# Altium schematic symbol library WE-MK.SchLib: 204 symbols (part 1 of 4)
Pins are listed as number, name and electrical type; pins without a type are passive.

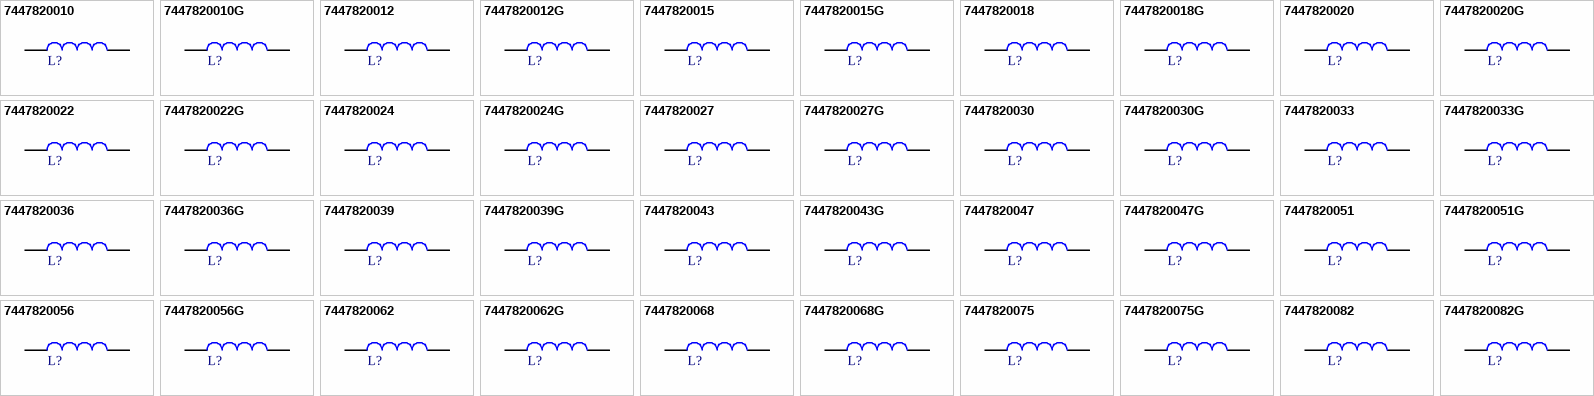
[diagram p0: symbols 7447820010 to 7447820082G]

## 7447820010
designator L?, comment 1nH  (value not drawn)
WE-MK Multilayer Ceramic SMT Inductor, size 0201, 1nH, 0.47A, 0.11Ohm; Manufacturer Part Number: 7447820010; Manufacturer: Wurth Elektronik; Case/Size Code: 0201; Inductance Tolerance: +/-0.3nH; Q Factor: 4; Self Resonant Frequency: 10000MHz; Category: RF Inductors; Match Code: WE-MK; ComponentLink1Description: Website Link; ComponentLink1URL: https://www.we-online.com/redexpert/article/7447820010?ad; ComponentLink2Description: Datasheet Link; ComponentLink2URL: https://www.we-online.com/redexpert/spec/7447820010?ad; Mount: Surface Mount; Operating Temperature Max: 125°C; Operating Temperature Min: -55°C; Packaging: Tape and Reel; Length: 0.6mm; Width: 0.3mm; Height: 0.3mm; DC Resistance Max: 0.11Ohm; Inductance: 1nH; Rated Current: 0.47A
footprint WE-MK_0201_L0.6W0.3H0.3
simulation model 0201_7447820010_1n
pins: 1, 2

## 7447820010G
designator L?, comment 1nH  (value not drawn)
WE-MK Multilayer Ceramic SMT Inductor, size 0201, 1nH, 0.47A, 0.11Ohm; Manufacturer Part Number: 7447820010G; Manufacturer: Wurth Elektronik; Case/Size Code: 0201; Inductance Tolerance: +/-0.1nH; Q Factor: 4; Self Resonant Frequency: 10000MHz; Category: RF Inductors; Match Code: WE-MK; ComponentLink1Description: Website Link; ComponentLink1URL: https://www.we-online.com/redexpert/article/7447820010G?ad; ComponentLink2Description: Datasheet Link; ComponentLink2URL: https://www.we-online.com/redexpert/spec/7447820010G?ad; Mount: Surface Mount; Operating Temperature Max: 125°C; Operating Temperature Min: -55°C; Packaging: Tape and Reel; Length: 0.6mm; Width: 0.3mm; Height: 0.3mm; DC Resistance Max: 0.11Ohm; Inductance: 1nH; Rated Current: 0.47A
footprint WE-MK_0201_L0.6W0.3H0.3
simulation model 0201_7447820010G_1n
pins: 1, 2

## 7447820012
designator L?, comment 1.2nH  (value not drawn)
WE-MK Multilayer Ceramic SMT Inductor, size 0201, 1.2nH, 0.45A, 0.12Ohm; Manufacturer Part Number: 7447820012; Manufacturer: Wurth Elektronik; Case/Size Code: 0201; Inductance Tolerance: +/-0.3nH; Q Factor: 4; Self Resonant Frequency: 10000MHz; Category: RF Inductors; Match Code: WE-MK; ComponentLink1Description: Website Link; ComponentLink1URL: https://www.we-online.com/redexpert/article/7447820012?ad; ComponentLink2Description: Datasheet Link; ComponentLink2URL: https://www.we-online.com/redexpert/spec/7447820012?ad; Mount: Surface Mount; Operating Temperature Max: 125°C; Operating Temperature Min: -55°C; Packaging: Tape and Reel; Length: 0.6mm; Width: 0.3mm; Height: 0.3mm; DC Resistance Max: 0.12Ohm; Inductance: 1.2nH; Rated Current: 0.45A
footprint WE-MK_0201_L0.6W0.3H0.3
simulation model 0201_7447820012_1.2n
pins: 1, 2

## 7447820012G
designator L?, comment 1.2nH  (value not drawn)
WE-MK Multilayer Ceramic SMT Inductor, size 0201, 1.2nH, 0.45A, 0.12Ohm; Manufacturer Part Number: 7447820012G; Manufacturer: Wurth Elektronik; Case/Size Code: 0201; Inductance Tolerance: +/-0.1nH; Q Factor: 4; Self Resonant Frequency: 10000MHz; Category: RF Inductors; Match Code: WE-MK; ComponentLink1Description: Website Link; ComponentLink1URL: https://www.we-online.com/redexpert/article/7447820012G?ad; ComponentLink2Description: Datasheet Link; ComponentLink2URL: https://www.we-online.com/redexpert/spec/7447820012G?ad; Mount: Surface Mount; Operating Temperature Max: 125°C; Operating Temperature Min: -55°C; Packaging: Tape and Reel; Length: 0.6mm; Width: 0.3mm; Height: 0.3mm; DC Resistance Max: 0.12Ohm; Inductance: 1.2nH; Rated Current: 0.45A
footprint WE-MK_0201_L0.6W0.3H0.3
simulation model 0201_7447820012G_1.2n
pins: 1, 2

## 7447820015
designator L?, comment 1.5nH  (value not drawn)
WE-MK Multilayer Ceramic SMT Inductor, size 0201, 1.5nH, 0.43A, 0.13Ohm; Manufacturer Part Number: 7447820015; Manufacturer: Wurth Elektronik; Case/Size Code: 0201; Inductance Tolerance: +/-0.3nH; Q Factor: 4; Self Resonant Frequency: 10000MHz; Category: RF Inductors; Match Code: WE-MK; ComponentLink1Description: Website Link; ComponentLink1URL: https://www.we-online.com/redexpert/article/7447820015?ad; ComponentLink2Description: Datasheet Link; ComponentLink2URL: https://www.we-online.com/redexpert/spec/7447820015?ad; Mount: Surface Mount; Operating Temperature Max: 125°C; Operating Temperature Min: -55°C; Packaging: Tape and Reel; Length: 0.6mm; Width: 0.3mm; Height: 0.3mm; DC Resistance Max: 0.13Ohm; Inductance: 1.5nH; Rated Current: 0.43A
footprint WE-MK_0201_L0.6W0.3H0.3
simulation model 0201_7447820015_1.5n
pins: 1, 2

## 7447820015G
designator L?, comment 1.5nH  (value not drawn)
WE-MK Multilayer Ceramic SMT Inductor, size 0201, 1.5nH, 0.43A, 0.13Ohm; Manufacturer Part Number: 7447820015G; Manufacturer: Wurth Elektronik; Case/Size Code: 0201; Inductance Tolerance: +/-0.1nH; Q Factor: 4; Self Resonant Frequency: 10000MHz; Category: RF Inductors; Match Code: WE-MK; ComponentLink1Description: Website Link; ComponentLink1URL: https://www.we-online.com/redexpert/article/7447820015G?ad; ComponentLink2Description: Datasheet Link; ComponentLink2URL: https://www.we-online.com/redexpert/spec/7447820015G?ad; Mount: Surface Mount; Operating Temperature Max: 125°C; Operating Temperature Min: -55°C; Packaging: Tape and Reel; Length: 0.6mm; Width: 0.3mm; Height: 0.3mm; DC Resistance Max: 0.13Ohm; Inductance: 1.5nH; Rated Current: 0.43A
footprint WE-MK_0201_L0.6W0.3H0.3
simulation model 0201_7447820015G_1.5n
pins: 1, 2

## 7447820018
designator L?, comment 1.8nH  (value not drawn)
WE-MK Multilayer Ceramic SMT Inductor, size 0201, 1.8nH, 0.39A, 0.16Ohm; Manufacturer Part Number: 7447820018; Manufacturer: Wurth Elektronik; Case/Size Code: 0201; Inductance Tolerance: +/-0.3nH; Q Factor: 4; Self Resonant Frequency: 10000MHz; Category: RF Inductors; Match Code: WE-MK; ComponentLink1Description: Website Link; ComponentLink1URL: https://www.we-online.com/redexpert/article/7447820018?ad; ComponentLink2Description: Datasheet Link; ComponentLink2URL: https://www.we-online.com/redexpert/spec/7447820018?ad; Mount: Surface Mount; Operating Temperature Max: 125°C; Operating Temperature Min: -55°C; Packaging: Tape and Reel; Length: 0.6mm; Width: 0.3mm; Height: 0.3mm; DC Resistance Max: 0.16Ohm; Inductance: 1.8nH; Rated Current: 0.39A
footprint WE-MK_0201_L0.6W0.3H0.3
simulation model 0201_7447820018_1.8n
pins: 1, 2

## 7447820018G
designator L?, comment 1.8nH  (value not drawn)
WE-MK Multilayer Ceramic SMT Inductor, size 0201, 1.8nH, 0.39A, 0.16Ohm; Manufacturer Part Number: 7447820018G; Manufacturer: Wurth Elektronik; Case/Size Code: 0201; Inductance Tolerance: +/-0.1nH; Q Factor: 4; Self Resonant Frequency: 10000MHz; Category: RF Inductors; Match Code: WE-MK; ComponentLink1Description: Website Link; ComponentLink1URL: https://www.we-online.com/redexpert/article/7447820018G?ad; ComponentLink2Description: Datasheet Link; ComponentLink2URL: https://www.we-online.com/redexpert/spec/7447820018G?ad; Mount: Surface Mount; Operating Temperature Max: 125°C; Operating Temperature Min: -55°C; Packaging: Tape and Reel; Length: 0.6mm; Width: 0.3mm; Height: 0.3mm; DC Resistance Max: 0.16Ohm; Inductance: 1.8nH; Rated Current: 0.39A
footprint WE-MK_0201_L0.6W0.3H0.3
simulation model 0201_7447820018G_1.8n
pins: 1, 2

## 7447820020
designator L?, comment 2nH  (value not drawn)
WE-MK Multilayer Ceramic SMT Inductor, size 0201, 2nH, 0.38A, 0.17Ohm; Manufacturer Part Number: 7447820020; Manufacturer: Wurth Elektronik; Case/Size Code: 0201; Inductance Tolerance: +/-0.3nH; Q Factor: 4; Self Resonant Frequency: 8800MHz; Category: RF Inductors; Match Code: WE-MK; ComponentLink1Description: Website Link; ComponentLink1URL: https://www.we-online.com/redexpert/article/7447820020?ad; ComponentLink2Description: Datasheet Link; ComponentLink2URL: https://www.we-online.com/redexpert/spec/7447820020?ad; Mount: Surface Mount; Operating Temperature Max: 125°C; Operating Temperature Min: -55°C; Packaging: Tape and Reel; Length: 0.6mm; Width: 0.3mm; Height: 0.3mm; DC Resistance Max: 0.17Ohm; Inductance: 2nH; Rated Current: 0.38A
footprint WE-MK_0201_L0.6W0.3H0.3
simulation model 0201_7447820020_2n
pins: 1, 2

## 7447820020G
designator L?, comment 2nH  (value not drawn)
WE-MK Multilayer Ceramic SMT Inductor, size 0201, 2nH, 0.38A, 0.17Ohm; Manufacturer Part Number: 7447820020G; Manufacturer: Wurth Elektronik; Case/Size Code: 0201; Inductance Tolerance: +/-0.1nH; Q Factor: 4; Self Resonant Frequency: 8800MHz; Category: RF Inductors; Match Code: WE-MK; ComponentLink1Description: Website Link; ComponentLink1URL: https://www.we-online.com/redexpert/article/7447820020G?ad; ComponentLink2Description: Datasheet Link; ComponentLink2URL: https://www.we-online.com/redexpert/spec/7447820020G?ad; Mount: Surface Mount; Operating Temperature Max: 125°C; Operating Temperature Min: -55°C; Packaging: Tape and Reel; Length: 0.6mm; Width: 0.3mm; Height: 0.3mm; DC Resistance Max: 0.17Ohm; Inductance: 2nH; Rated Current: 0.38A
footprint WE-MK_0201_L0.6W0.3H0.3
simulation model 0201_7447820020G_2n
pins: 1, 2

## 7447820022
designator L?, comment 2.2nH  (value not drawn)
WE-MK Multilayer Ceramic SMT Inductor, size 0201, 2.2nH, 0.36A, 0.19Ohm; Manufacturer Part Number: 7447820022; Manufacturer: Wurth Elektronik; Case/Size Code: 0201; Inductance Tolerance: +/-0.3nH; Q Factor: 4; Self Resonant Frequency: 8800MHz; Category: RF Inductors; Match Code: WE-MK; ComponentLink1Description: Website Link; ComponentLink1URL: https://www.we-online.com/redexpert/article/7447820022?ad; ComponentLink2Description: Datasheet Link; ComponentLink2URL: https://www.we-online.com/redexpert/spec/7447820022?ad; Mount: Surface Mount; Operating Temperature Max: 125°C; Operating Temperature Min: -55°C; Packaging: Tape and Reel; Length: 0.6mm; Width: 0.3mm; Height: 0.3mm; DC Resistance Max: 0.19Ohm; Inductance: 2.2nH; Rated Current: 0.36A
footprint WE-MK_0201_L0.6W0.3H0.3
simulation model 0201_7447820022_2.2n
pins: 1, 2

## 7447820022G
designator L?, comment 2.2nH  (value not drawn)
WE-MK Multilayer Ceramic SMT Inductor, size 0201, 2.2nH, 0.36A, 0.19Ohm; Manufacturer Part Number: 7447820022G; Manufacturer: Wurth Elektronik; Case/Size Code: 0201; Inductance Tolerance: +/-0.1nH; Q Factor: 4; Self Resonant Frequency: 8800MHz; Category: RF Inductors; Match Code: WE-MK; ComponentLink1Description: Website Link; ComponentLink1URL: https://www.we-online.com/redexpert/article/7447820022G?ad; ComponentLink2Description: Datasheet Link; ComponentLink2URL: https://www.we-online.com/redexpert/spec/7447820022G?ad; Mount: Surface Mount; Operating Temperature Max: 125°C; Operating Temperature Min: -55°C; Packaging: Tape and Reel; Length: 0.6mm; Width: 0.3mm; Height: 0.3mm; DC Resistance Max: 0.19Ohm; Inductance: 2.2nH; Rated Current: 0.36A
footprint WE-MK_0201_L0.6W0.3H0.3
simulation model 0201_7447820022G_2.2n
pins: 1, 2

## 7447820024
designator L?, comment 2.4nH  (value not drawn)
WE-MK Multilayer Ceramic SMT Inductor, size 0201, 2.4nH, 0.35A, 0.2Ohm; Manufacturer Part Number: 7447820024; Manufacturer: Wurth Elektronik; Case/Size Code: 0201; Inductance Tolerance: +/-0.3nH; Q Factor: 4; Self Resonant Frequency: 8300MHz; Category: RF Inductors; Match Code: WE-MK; ComponentLink1Description: Website Link; ComponentLink1URL: https://www.we-online.com/redexpert/article/7447820024?ad; ComponentLink2Description: Datasheet Link; ComponentLink2URL: https://www.we-online.com/redexpert/spec/7447820024?ad; Mount: Surface Mount; Operating Temperature Max: 125°C; Operating Temperature Min: -55°C; Packaging: Tape and Reel; Length: 0.6mm; Width: 0.3mm; Height: 0.3mm; DC Resistance Max: 0.2Ohm; Inductance: 2.4nH; Rated Current: 0.35A
footprint WE-MK_0201_L0.6W0.3H0.3
simulation model 0201_7447820024_2.4n
pins: 1, 2

## 7447820024G
designator L?, comment 2.4nH  (value not drawn)
WE-MK Multilayer Ceramic SMT Inductor, size 0201, 2.4nH, 0.35A, 0.2Ohm; Manufacturer Part Number: 7447820024G; Manufacturer: Wurth Elektronik; Case/Size Code: 0201; Inductance Tolerance: +/-0.1nH; Q Factor: 4; Self Resonant Frequency: 8300MHz; Category: RF Inductors; Match Code: WE-MK; ComponentLink1Description: Website Link; ComponentLink1URL: https://www.we-online.com/redexpert/article/7447820024G?ad; ComponentLink2Description: Datasheet Link; ComponentLink2URL: https://www.we-online.com/redexpert/spec/7447820024G?ad; Mount: Surface Mount; Operating Temperature Max: 125°C; Operating Temperature Min: -55°C; Packaging: Tape and Reel; Length: 0.6mm; Width: 0.3mm; Height: 0.3mm; DC Resistance Max: 0.2Ohm; Inductance: 2.4nH; Rated Current: 0.35A
footprint WE-MK_0201_L0.6W0.3H0.3
simulation model 0201_7447820024G_2.4n
pins: 1, 2

## 7447820027
designator L?, comment 2.7nH  (value not drawn)
WE-MK Multilayer Ceramic SMT Inductor, size 0201, 2.7nH, 0.34A, 0.21Ohm; Manufacturer Part Number: 7447820027; Manufacturer: Wurth Elektronik; Case/Size Code: 0201; Inductance Tolerance: +/-0.3nH; Q Factor: 4; Self Resonant Frequency: 7700MHz; Category: RF Inductors; Match Code: WE-MK; ComponentLink1Description: Website Link; ComponentLink1URL: https://www.we-online.com/redexpert/article/7447820027?ad; ComponentLink2Description: Datasheet Link; ComponentLink2URL: https://www.we-online.com/redexpert/spec/7447820027?ad; Mount: Surface Mount; Operating Temperature Max: 125°C; Operating Temperature Min: -55°C; Packaging: Tape and Reel; Length: 0.6mm; Width: 0.3mm; Height: 0.3mm; DC Resistance Max: 0.21Ohm; Inductance: 2.7nH; Rated Current: 0.34A
footprint WE-MK_0201_L0.6W0.3H0.3
simulation model 0201_7447820027_2.7n
pins: 1, 2

## 7447820027G
designator L?, comment 2.7nH  (value not drawn)
WE-MK Multilayer Ceramic SMT Inductor, size 0201, 2.7nH, 0.34A, 0.21Ohm; Manufacturer Part Number: 7447820027G; Manufacturer: Wurth Elektronik; Case/Size Code: 0201; Inductance Tolerance: +/-0.1nH; Q Factor: 4; Self Resonant Frequency: 7700MHz; Category: RF Inductors; Match Code: WE-MK; ComponentLink1Description: Website Link; ComponentLink1URL: https://www.we-online.com/redexpert/article/7447820027G?ad; ComponentLink2Description: Datasheet Link; ComponentLink2URL: https://www.we-online.com/redexpert/spec/7447820027G?ad; Mount: Surface Mount; Operating Temperature Max: 125°C; Operating Temperature Min: -55°C; Packaging: Tape and Reel; Length: 0.6mm; Width: 0.3mm; Height: 0.3mm; DC Resistance Max: 0.21Ohm; Inductance: 2.7nH; Rated Current: 0.34A
footprint WE-MK_0201_L0.6W0.3H0.3
simulation model 0201_7447820027G_2.7n
pins: 1, 2

## 7447820030
designator L?, comment 3nH  (value not drawn)
WE-MK Multilayer Ceramic SMT Inductor, size 0201, 3nH, 0.33A, 0.22Ohm; Manufacturer Part Number: 7447820030; Manufacturer: Wurth Elektronik; Case/Size Code: 0201; Inductance Tolerance: +/-0.3nH; Q Factor: 4; Self Resonant Frequency: 7200MHz; Category: RF Inductors; Match Code: WE-MK; ComponentLink1Description: Website Link; ComponentLink1URL: https://www.we-online.com/redexpert/article/7447820030?ad; ComponentLink2Description: Datasheet Link; ComponentLink2URL: https://www.we-online.com/redexpert/spec/7447820030?ad; Mount: Surface Mount; Operating Temperature Max: 125°C; Operating Temperature Min: -55°C; Packaging: Tape and Reel; Length: 0.6mm; Width: 0.3mm; Height: 0.3mm; DC Resistance Max: 0.22Ohm; Inductance: 3nH; Rated Current: 0.33A
footprint WE-MK_0201_L0.6W0.3H0.3
simulation model 0201_7447820030_3n
pins: 1, 2

## 7447820030G
designator L?, comment 3nH  (value not drawn)
WE-MK Multilayer Ceramic SMT Inductor, size 0201, 3nH, 0.33A, 0.22Ohm; Manufacturer Part Number: 7447820030G; Manufacturer: Wurth Elektronik; Case/Size Code: 0201; Inductance Tolerance: +/-0.1nH; Q Factor: 4; Self Resonant Frequency: 7200MHz; Category: RF Inductors; Match Code: WE-MK; ComponentLink1Description: Website Link; ComponentLink1URL: https://www.we-online.com/redexpert/article/7447820030G?ad; ComponentLink2Description: Datasheet Link; ComponentLink2URL: https://www.we-online.com/redexpert/spec/7447820030G?ad; Mount: Surface Mount; Operating Temperature Max: 125°C; Operating Temperature Min: -55°C; Packaging: Tape and Reel; Length: 0.6mm; Width: 0.3mm; Height: 0.3mm; DC Resistance Max: 0.22Ohm; Inductance: 3nH; Rated Current: 0.33A
footprint WE-MK_0201_L0.6W0.3H0.3
simulation model 0201_7447820030G_3n
pins: 1, 2

## 7447820033
designator L?, comment 3.3nH  (value not drawn)
WE-MK Multilayer Ceramic SMT Inductor, size 0201, 3.3nH, 0.32A, 0.23Ohm; Manufacturer Part Number: 7447820033; Manufacturer: Wurth Elektronik; Case/Size Code: 0201; Inductance Tolerance: +/-0.3nH; Q Factor: 4; Self Resonant Frequency: 6700MHz; Category: RF Inductors; Match Code: WE-MK; ComponentLink1Description: Website Link; ComponentLink1URL: https://www.we-online.com/redexpert/article/7447820033?ad; ComponentLink2Description: Datasheet Link; ComponentLink2URL: https://www.we-online.com/redexpert/spec/7447820033?ad; Mount: Surface Mount; Operating Temperature Max: 125°C; Operating Temperature Min: -55°C; Packaging: Tape and Reel; Length: 0.6mm; Width: 0.3mm; Height: 0.3mm; DC Resistance Max: 0.23Ohm; Inductance: 3.3nH; Rated Current: 0.32A
footprint WE-MK_0201_L0.6W0.3H0.3
simulation model 0201_7447820033_3.3n
pins: 1, 2

## 7447820033G
designator L?, comment 3.3nH  (value not drawn)
WE-MK Multilayer Ceramic SMT Inductor, size 0201, 3.3nH, 0.32A, 0.23Ohm; Manufacturer Part Number: 7447820033G; Manufacturer: Wurth Elektronik; Case/Size Code: 0201; Inductance Tolerance: +/-0.1nH; Q Factor: 4; Self Resonant Frequency: 6700MHz; Category: RF Inductors; Match Code: WE-MK; ComponentLink1Description: Website Link; ComponentLink1URL: https://www.we-online.com/redexpert/article/7447820033G?ad; ComponentLink2Description: Datasheet Link; ComponentLink2URL: https://www.we-online.com/redexpert/spec/7447820033G?ad; Mount: Surface Mount; Operating Temperature Max: 125°C; Operating Temperature Min: -55°C; Packaging: Tape and Reel; Length: 0.6mm; Width: 0.3mm; Height: 0.3mm; DC Resistance Max: 0.23Ohm; Inductance: 3.3nH; Rated Current: 0.32A
footprint WE-MK_0201_L0.6W0.3H0.3
simulation model 0201_7447820033G_3.3n
pins: 1, 2

## 7447820036
designator L?, comment 3.6nH  (value not drawn)
WE-MK Multilayer Ceramic SMT Inductor, size 0201, 3.6nH, 0.31A, 0.25Ohm; Manufacturer Part Number: 7447820036; Manufacturer: Wurth Elektronik; Case/Size Code: 0201; Inductance Tolerance: +/-0.3nH; Q Factor: 4; Self Resonant Frequency: 6400MHz; Category: RF Inductors; Match Code: WE-MK; ComponentLink1Description: Website Link; ComponentLink1URL: https://www.we-online.com/redexpert/article/7447820036?ad; ComponentLink2Description: Datasheet Link; ComponentLink2URL: https://www.we-online.com/redexpert/spec/7447820036?ad; Mount: Surface Mount; Operating Temperature Max: 125°C; Operating Temperature Min: -55°C; Packaging: Tape and Reel; Length: 0.6mm; Width: 0.3mm; Height: 0.3mm; DC Resistance Max: 0.25Ohm; Inductance: 3.6nH; Rated Current: 0.31A
footprint WE-MK_0201_L0.6W0.3H0.3
simulation model 0201_7447820036_3.6n
pins: 1, 2

## 7447820036G
designator L?, comment 3.6nH  (value not drawn)
WE-MK Multilayer Ceramic SMT Inductor, size 0201, 3.6nH, 0.31A, 0.25Ohm; Manufacturer Part Number: 7447820036G; Manufacturer: Wurth Elektronik; Case/Size Code: 0201; Inductance Tolerance: +/-0.1nH; Q Factor: 4; Self Resonant Frequency: 6400MHz; Category: RF Inductors; Match Code: WE-MK; ComponentLink1Description: Website Link; ComponentLink1URL: https://www.we-online.com/redexpert/article/7447820036G?ad; ComponentLink2Description: Datasheet Link; ComponentLink2URL: https://www.we-online.com/redexpert/spec/7447820036G?ad; Mount: Surface Mount; Operating Temperature Max: 125°C; Operating Temperature Min: -55°C; Packaging: Tape and Reel; Length: 0.6mm; Width: 0.3mm; Height: 0.3mm; DC Resistance Max: 0.25Ohm; Inductance: 3.6nH; Rated Current: 0.31A
footprint WE-MK_0201_L0.6W0.3H0.3
simulation model 0201_7447820036G_3.6n
pins: 1, 2

## 7447820039
designator L?, comment 3.9nH  (value not drawn)
WE-MK Multilayer Ceramic SMT Inductor, size 0201, 3.9nH, 0.3A, 0.27Ohm; Manufacturer Part Number: 7447820039; Manufacturer: Wurth Elektronik; Case/Size Code: 0201; Inductance Tolerance: +/-0.3nH; Q Factor: 4; Self Resonant Frequency: 6000MHz; Category: RF Inductors; Match Code: WE-MK; ComponentLink1Description: Website Link; ComponentLink1URL: https://www.we-online.com/redexpert/article/7447820039?ad; ComponentLink2Description: Datasheet Link; ComponentLink2URL: https://www.we-online.com/redexpert/spec/7447820039?ad; Mount: Surface Mount; Operating Temperature Max: 125°C; Operating Temperature Min: -55°C; Packaging: Tape and Reel; Length: 0.6mm; Width: 0.3mm; Height: 0.3mm; DC Resistance Max: 0.27Ohm; Inductance: 3.9nH; Rated Current: 0.3A
footprint WE-MK_0201_L0.6W0.3H0.3
simulation model 0201_7447820039_3.9n
pins: 1, 2

## 7447820039G
designator L?, comment 3.9nH  (value not drawn)
WE-MK Multilayer Ceramic SMT Inductor, size 0201, 3.9nH, 0.3A, 0.27Ohm; Manufacturer Part Number: 7447820039G; Manufacturer: Wurth Elektronik; Case/Size Code: 0201; Inductance Tolerance: +/-0.1nH; Q Factor: 4; Self Resonant Frequency: 6000MHz; Category: RF Inductors; Match Code: WE-MK; ComponentLink1Description: Website Link; ComponentLink1URL: https://www.we-online.com/redexpert/article/7447820039G?ad; ComponentLink2Description: Datasheet Link; ComponentLink2URL: https://www.we-online.com/redexpert/spec/7447820039G?ad; Mount: Surface Mount; Operating Temperature Max: 125°C; Operating Temperature Min: -55°C; Packaging: Tape and Reel; Length: 0.6mm; Width: 0.3mm; Height: 0.3mm; DC Resistance Max: 0.27Ohm; Inductance: 3.9nH; Rated Current: 0.3A
footprint WE-MK_0201_L0.6W0.3H0.3
simulation model 0201_7447820039G_3.9n
pins: 1, 2

## 7447820043
designator L?, comment 4.3nH  (value not drawn)
WE-MK Multilayer Ceramic SMT Inductor, size 0201, 4.3nH, 0.28A, 0.3Ohm; Manufacturer Part Number: 7447820043; Manufacturer: Wurth Elektronik; Case/Size Code: 0201; Inductance Tolerance: +/-0.3nH; Q Factor: 4; Self Resonant Frequency: 5700MHz; Category: RF Inductors; Match Code: WE-MK; ComponentLink1Description: Website Link; ComponentLink1URL: https://www.we-online.com/redexpert/article/7447820043?ad; ComponentLink2Description: Datasheet Link; ComponentLink2URL: https://www.we-online.com/redexpert/spec/7447820043?ad; Mount: Surface Mount; Operating Temperature Max: 125°C; Operating Temperature Min: -55°C; Packaging: Tape and Reel; Length: 0.6mm; Width: 0.3mm; Height: 0.3mm; DC Resistance Max: 0.3Ohm; Inductance: 4.3nH; Rated Current: 0.28A
footprint WE-MK_0201_L0.6W0.3H0.3
simulation model 0201_7447820043_4.3n
pins: 1, 2

## 7447820043G
designator L?, comment 4.3nH  (value not drawn)
WE-MK Multilayer Ceramic SMT Inductor, size 0201, 4.3nH, 0.28A, 0.3Ohm; Manufacturer Part Number: 7447820043G; Manufacturer: Wurth Elektronik; Case/Size Code: 0201; Inductance Tolerance: +/-0.1nH; Q Factor: 4; Self Resonant Frequency: 5700MHz; Category: RF Inductors; Match Code: WE-MK; ComponentLink1Description: Website Link; ComponentLink1URL: https://www.we-online.com/redexpert/article/7447820043G?ad; ComponentLink2Description: Datasheet Link; ComponentLink2URL: https://www.we-online.com/redexpert/spec/7447820043G?ad; Mount: Surface Mount; Operating Temperature Max: 125°C; Operating Temperature Min: -55°C; Packaging: Tape and Reel; Length: 0.6mm; Width: 0.3mm; Height: 0.3mm; DC Resistance Max: 0.3Ohm; Inductance: 4.3nH; Rated Current: 0.28A
footprint WE-MK_0201_L0.6W0.3H0.3
simulation model 0201_7447820043G_4.3n
pins: 1, 2

## 7447820047
designator L?, comment 4.7nH  (value not drawn)
WE-MK Multilayer Ceramic SMT Inductor, size 0201, 4.7nH, 0.28A, 0.3Ohm; Manufacturer Part Number: 7447820047; Manufacturer: Wurth Elektronik; Case/Size Code: 0201; Inductance Tolerance: +/-0.3nH; Q Factor: 4; Self Resonant Frequency: 5300MHz; Category: RF Inductors; Match Code: WE-MK; ComponentLink1Description: Website Link; ComponentLink1URL: https://www.we-online.com/redexpert/article/7447820047?ad; ComponentLink2Description: Datasheet Link; ComponentLink2URL: https://www.we-online.com/redexpert/spec/7447820047?ad; Mount: Surface Mount; Operating Temperature Max: 125°C; Operating Temperature Min: -55°C; Packaging: Tape and Reel; Length: 0.6mm; Width: 0.3mm; Height: 0.3mm; DC Resistance Max: 0.3Ohm; Inductance: 4.7nH; Rated Current: 0.28A
footprint WE-MK_0201_L0.6W0.3H0.3
simulation model 0201_7447820047_4.7n
pins: 1, 2

## 7447820047G
designator L?, comment 4.7nH  (value not drawn)
WE-MK Multilayer Ceramic SMT Inductor, size 0201, 4.7nH, 0.28A, 0.3Ohm; Manufacturer Part Number: 7447820047G; Manufacturer: Wurth Elektronik; Case/Size Code: 0201; Inductance Tolerance: +/-0.1nH; Q Factor: 4; Self Resonant Frequency: 5300MHz; Category: RF Inductors; Match Code: WE-MK; ComponentLink1Description: Website Link; ComponentLink1URL: https://www.we-online.com/redexpert/article/7447820047G?ad; ComponentLink2Description: Datasheet Link; ComponentLink2URL: https://www.we-online.com/redexpert/spec/7447820047G?ad; Mount: Surface Mount; Operating Temperature Max: 125°C; Operating Temperature Min: -55°C; Packaging: Tape and Reel; Length: 0.6mm; Width: 0.3mm; Height: 0.3mm; DC Resistance Max: 0.3Ohm; Inductance: 4.7nH; Rated Current: 0.28A
footprint WE-MK_0201_L0.6W0.3H0.3
simulation model 0201_7447820047G_4.7n
pins: 1, 2

## 7447820051
designator L?, comment 5.1nH  (value not drawn)
WE-MK Multilayer Ceramic SMT Inductor, size 0201, 5.1nH, 0.27A, 0.33Ohm; Manufacturer Part Number: 7447820051; Manufacturer: Wurth Elektronik; Case/Size Code: 0201; Inductance Tolerance: +/-0.3nH; Q Factor: 4; Self Resonant Frequency: 5000MHz; Category: RF Inductors; Match Code: WE-MK; ComponentLink1Description: Website Link; ComponentLink1URL: https://www.we-online.com/redexpert/article/7447820051?ad; ComponentLink2Description: Datasheet Link; ComponentLink2URL: https://www.we-online.com/redexpert/spec/7447820051?ad; Mount: Surface Mount; Operating Temperature Max: 125°C; Operating Temperature Min: -55°C; Packaging: Tape and Reel; Length: 0.6mm; Width: 0.3mm; Height: 0.3mm; DC Resistance Max: 0.33Ohm; Inductance: 5.1nH; Rated Current: 0.27A
footprint WE-MK_0201_L0.6W0.3H0.3
simulation model 0201_7447820051_5.1n
pins: 1, 2

## 7447820051G
designator L?, comment 5.1nH  (value not drawn)
WE-MK Multilayer Ceramic SMT Inductor, size 0201, 5.1nH, 0.27A, 0.33Ohm; Manufacturer Part Number: 7447820051G; Manufacturer: Wurth Elektronik; Case/Size Code: 0201; Inductance Tolerance: +/-0.1nH; Q Factor: 4; Self Resonant Frequency: 5000MHz; Category: RF Inductors; Match Code: WE-MK; ComponentLink1Description: Website Link; ComponentLink1URL: https://www.we-online.com/redexpert/article/7447820051G?ad; ComponentLink2Description: Datasheet Link; ComponentLink2URL: https://www.we-online.com/redexpert/spec/7447820051G?ad; Mount: Surface Mount; Operating Temperature Max: 125°C; Operating Temperature Min: -55°C; Packaging: Tape and Reel; Length: 0.6mm; Width: 0.3mm; Height: 0.3mm; DC Resistance Max: 0.33Ohm; Inductance: 5.1nH; Rated Current: 0.27A
footprint WE-MK_0201_L0.6W0.3H0.3
simulation model 0201_7447820051G_5.1n
pins: 1, 2

## 7447820056
designator L?, comment 5.6nH  (value not drawn)
WE-MK Multilayer Ceramic SMT Inductor, size 0201, 5.6nH, 0.26A, 0.36Ohm; Manufacturer Part Number: 7447820056; Manufacturer: Wurth Elektronik; Case/Size Code: 0201; Inductance Tolerance: +/-0.3nH; Q Factor: 4; Self Resonant Frequency: 4600MHz; Category: RF Inductors; Match Code: WE-MK; ComponentLink1Description: Website Link; ComponentLink1URL: https://www.we-online.com/redexpert/article/7447820056?ad; ComponentLink2Description: Datasheet Link; ComponentLink2URL: https://www.we-online.com/redexpert/spec/7447820056?ad; Mount: Surface Mount; Operating Temperature Max: 125°C; Operating Temperature Min: -55°C; Packaging: Tape and Reel; Length: 0.6mm; Width: 0.3mm; Height: 0.3mm; DC Resistance Max: 0.36Ohm; Inductance: 5.6nH; Rated Current: 0.26A
footprint WE-MK_0201_L0.6W0.3H0.3
simulation model 0201_7447820056_5.6n
pins: 1, 2

## 7447820056G
designator L?, comment 5.6nH  (value not drawn)
WE-MK Multilayer Ceramic SMT Inductor, size 0201, 5.6nH, 0.26A, 0.36Ohm; Manufacturer Part Number: 7447820056G; Manufacturer: Wurth Elektronik; Case/Size Code: 0201; Inductance Tolerance: +/-0.1nH; Q Factor: 4; Self Resonant Frequency: 4600MHz; Category: RF Inductors; Match Code: WE-MK; ComponentLink1Description: Website Link; ComponentLink1URL: https://www.we-online.com/redexpert/article/7447820056G?ad; ComponentLink2Description: Datasheet Link; ComponentLink2URL: https://www.we-online.com/redexpert/spec/7447820056G?ad; Mount: Surface Mount; Operating Temperature Max: 125°C; Operating Temperature Min: -55°C; Packaging: Tape and Reel; Length: 0.6mm; Width: 0.3mm; Height: 0.3mm; DC Resistance Max: 0.36Ohm; Inductance: 5.6nH; Rated Current: 0.26A
footprint WE-MK_0201_L0.6W0.3H0.3
simulation model 0201_7447820056G_5.6n
pins: 1, 2

## 7447820062
designator L?, comment 6.2nH  (value not drawn)
WE-MK Multilayer Ceramic SMT Inductor, size 0201, 6.2nH, 0.25A, 0.38Ohm; Manufacturer Part Number: 7447820062; Manufacturer: Wurth Elektronik; Case/Size Code: 0201; Inductance Tolerance: +/-0.3nH; Q Factor: 4; Self Resonant Frequency: 4200MHz; Category: RF Inductors; Match Code: WE-MK; ComponentLink1Description: Website Link; ComponentLink1URL: https://www.we-online.com/redexpert/article/7447820062?ad; ComponentLink2Description: Datasheet Link; ComponentLink2URL: https://www.we-online.com/redexpert/spec/7447820062?ad; Mount: Surface Mount; Operating Temperature Max: 125°C; Operating Temperature Min: -55°C; Packaging: Tape and Reel; Length: 0.6mm; Width: 0.3mm; Height: 0.3mm; DC Resistance Max: 0.38Ohm; Inductance: 6.2nH; Rated Current: 0.25A
footprint WE-MK_0201_L0.6W0.3H0.3
simulation model 0201_7447820062_6.2n
pins: 1, 2

## 7447820062G
designator L?, comment 6.2nH  (value not drawn)
WE-MK Multilayer Ceramic SMT Inductor, size 0201, 6.2nH, 0.25A, 0.38Ohm; Manufacturer Part Number: 7447820062G; Manufacturer: Wurth Elektronik; Case/Size Code: 0201; Inductance Tolerance: +/-2%; Q Factor: 4; Self Resonant Frequency: 4200MHz; Category: RF Inductors; Match Code: WE-MK; ComponentLink1Description: Website Link; ComponentLink1URL: https://www.we-online.com/redexpert/article/7447820062G?ad; ComponentLink2Description: Datasheet Link; ComponentLink2URL: https://www.we-online.com/redexpert/spec/7447820062G?ad; Mount: Surface Mount; Operating Temperature Max: 125°C; Operating Temperature Min: -55°C; Packaging: Tape and Reel; Length: 0.6mm; Width: 0.3mm; Height: 0.3mm; DC Resistance Max: 0.38Ohm; Inductance: 6.2nH; Rated Current: 0.25A
footprint WE-MK_0201_L0.6W0.3H0.3
simulation model 0201_7447820062G_6.2n
pins: 1, 2

## 7447820068
designator L?, comment 6.8nH  (value not drawn)
WE-MK Multilayer Ceramic SMT Inductor, size 0201, 6.8nH, 0.25A, 0.39Ohm; Manufacturer Part Number: 7447820068; Manufacturer: Wurth Elektronik; Case/Size Code: 0201; Inductance Tolerance: +/-5%; Q Factor: 4; Self Resonant Frequency: 3900MHz; Category: RF Inductors; Match Code: WE-MK; ComponentLink1Description: Website Link; ComponentLink1URL: https://www.we-online.com/redexpert/article/7447820068?ad; ComponentLink2Description: Datasheet Link; ComponentLink2URL: https://www.we-online.com/redexpert/spec/7447820068?ad; Mount: Surface Mount; Operating Temperature Max: 125°C; Operating Temperature Min: -55°C; Packaging: Tape and Reel; Length: 0.6mm; Width: 0.3mm; Height: 0.3mm; DC Resistance Max: 0.39Ohm; Inductance: 6.8nH; Rated Current: 0.25A
footprint WE-MK_0201_L0.6W0.3H0.3
simulation model 0201_7447820068_6.8n
pins: 1, 2

## 7447820068G
designator L?, comment 6.8nH  (value not drawn)
WE-MK Multilayer Ceramic SMT Inductor, size 0201, 6.8nH, 0.25A, 0.39Ohm; Manufacturer Part Number: 7447820068G; Manufacturer: Wurth Elektronik; Case/Size Code: 0201; Inductance Tolerance: +/-2%; Q Factor: 4; Self Resonant Frequency: 3900MHz; Category: RF Inductors; Match Code: WE-MK; ComponentLink1Description: Website Link; ComponentLink1URL: https://www.we-online.com/redexpert/article/7447820068G?ad; ComponentLink2Description: Datasheet Link; ComponentLink2URL: https://www.we-online.com/redexpert/spec/7447820068G?ad; Mount: Surface Mount; Operating Temperature Max: 125°C; Operating Temperature Min: -55°C; Packaging: Tape and Reel; Length: 0.6mm; Width: 0.3mm; Height: 0.3mm; DC Resistance Max: 0.39Ohm; Inductance: 6.8nH; Rated Current: 0.25A
footprint WE-MK_0201_L0.6W0.3H0.3
simulation model 0201_7447820068G_6.8n
pins: 1, 2

## 7447820075
designator L?, comment 7.5nH  (value not drawn)
WE-MK Multilayer Ceramic SMT Inductor, size 0201, 7.5nH, 0.24A, 0.41Ohm; Manufacturer Part Number: 7447820075; Manufacturer: Wurth Elektronik; Case/Size Code: 0201; Inductance Tolerance: +/-5%; Q Factor: 4; Self Resonant Frequency: 3600MHz; Category: RF Inductors; Match Code: WE-MK; ComponentLink1Description: Website Link; ComponentLink1URL: https://www.we-online.com/redexpert/article/7447820075?ad; ComponentLink2Description: Datasheet Link; ComponentLink2URL: https://www.we-online.com/redexpert/spec/7447820075?ad; Mount: Surface Mount; Operating Temperature Max: 125°C; Operating Temperature Min: -55°C; Packaging: Tape and Reel; Length: 0.6mm; Width: 0.3mm; Height: 0.3mm; DC Resistance Max: 0.41Ohm; Inductance: 7.5nH; Rated Current: 0.24A
footprint WE-MK_0201_L0.6W0.3H0.3
simulation model 0201_7447820075_7.5n
pins: 1, 2

## 7447820075G
designator L?, comment 7.5nH  (value not drawn)
WE-MK Multilayer Ceramic SMT Inductor, size 0201, 7.5nH, 0.24A, 0.41Ohm; Manufacturer Part Number: 7447820075G; Manufacturer: Wurth Elektronik; Case/Size Code: 0201; Inductance Tolerance: +/-2%; Q Factor: 4; Self Resonant Frequency: 3600MHz; Category: RF Inductors; Match Code: WE-MK; ComponentLink1Description: Website Link; ComponentLink1URL: https://www.we-online.com/redexpert/article/7447820075G?ad; ComponentLink2Description: Datasheet Link; ComponentLink2URL: https://www.we-online.com/redexpert/spec/7447820075G?ad; Mount: Surface Mount; Operating Temperature Max: 125°C; Operating Temperature Min: -55°C; Packaging: Tape and Reel; Length: 0.6mm; Width: 0.3mm; Height: 0.3mm; DC Resistance Max: 0.41Ohm; Inductance: 7.5nH; Rated Current: 0.24A
footprint WE-MK_0201_L0.6W0.3H0.3
simulation model 0201_7447820075G_7.5n
pins: 1, 2

## 7447820082
designator L?, comment 8.2nH  (value not drawn)
WE-MK Multilayer Ceramic SMT Inductor, size 0201, 8.2nH, 0.23A, 0.45Ohm; Manufacturer Part Number: 7447820082; Manufacturer: Wurth Elektronik; Case/Size Code: 0201; Inductance Tolerance: +/-5%; Q Factor: 4; Self Resonant Frequency: 3400MHz; Category: RF Inductors; Match Code: WE-MK; ComponentLink1Description: Website Link; ComponentLink1URL: https://www.we-online.com/redexpert/article/7447820082?ad; ComponentLink2Description: Datasheet Link; ComponentLink2URL: https://www.we-online.com/redexpert/spec/7447820082?ad; Mount: Surface Mount; Operating Temperature Max: 125°C; Operating Temperature Min: -55°C; Packaging: Tape and Reel; Length: 0.6mm; Width: 0.3mm; Height: 0.3mm; DC Resistance Max: 0.45Ohm; Inductance: 8.2nH; Rated Current: 0.23A
footprint WE-MK_0201_L0.6W0.3H0.3
simulation model 0201_7447820082_8.2n
pins: 1, 2

## 7447820082G
designator L?, comment 8.2nH  (value not drawn)
WE-MK Multilayer Ceramic SMT Inductor, size 0201, 8.2nH, 0.23A, 0.45Ohm; Manufacturer Part Number: 7447820082G; Manufacturer: Wurth Elektronik; Case/Size Code: 0201; Inductance Tolerance: +/-2%; Q Factor: 4; Self Resonant Frequency: 3400MHz; Category: RF Inductors; Match Code: WE-MK; ComponentLink1Description: Website Link; ComponentLink1URL: https://www.we-online.com/redexpert/article/7447820082G?ad; ComponentLink2Description: Datasheet Link; ComponentLink2URL: https://www.we-online.com/redexpert/spec/7447820082G?ad; Mount: Surface Mount; Operating Temperature Max: 125°C; Operating Temperature Min: -55°C; Packaging: Tape and Reel; Length: 0.6mm; Width: 0.3mm; Height: 0.3mm; DC Resistance Max: 0.45Ohm; Inductance: 8.2nH; Rated Current: 0.23A
footprint WE-MK_0201_L0.6W0.3H0.3
simulation model 0201_7447820082G_8.2n
pins: 1, 2

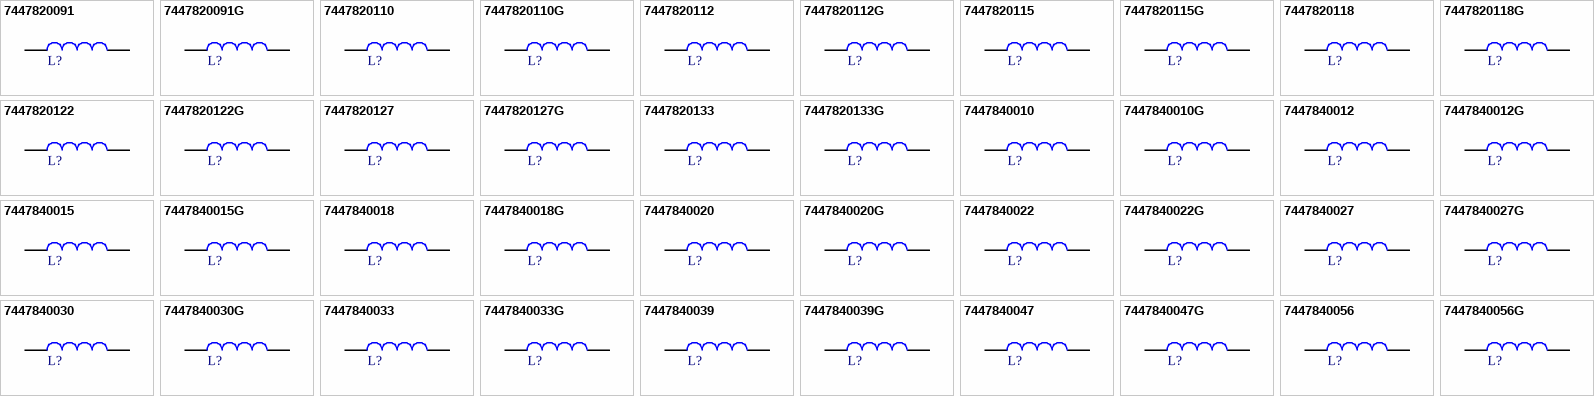
[diagram p1: symbols 7447820091 to 7447840056G]

## 7447820091
designator L?, comment 9.1nH  (value not drawn)
WE-MK Multilayer Ceramic SMT Inductor, size 0201, 9.1nH, 0.22A, 0.48Ohm; Manufacturer Part Number: 7447820091; Manufacturer: Wurth Elektronik; Case/Size Code: 0201; Inductance Tolerance: +/-5%; Q Factor: 4; Self Resonant Frequency: 3200MHz; Category: RF Inductors; Match Code: WE-MK; ComponentLink1Description: Website Link; ComponentLink1URL: https://www.we-online.com/redexpert/article/7447820091?ad; ComponentLink2Description: Datasheet Link; ComponentLink2URL: https://www.we-online.com/redexpert/spec/7447820091?ad; Mount: Surface Mount; Operating Temperature Max: 125°C; Operating Temperature Min: -55°C; Packaging: Tape and Reel; Length: 0.6mm; Width: 0.3mm; Height: 0.3mm; DC Resistance Max: 0.48Ohm; Inductance: 9.1nH; Rated Current: 0.22A
footprint WE-MK_0201_L0.6W0.3H0.3
simulation model 0201_7447820091_9.1n
pins: 1, 2

## 7447820091G
designator L?, comment 9.1nH  (value not drawn)
WE-MK Multilayer Ceramic SMT Inductor, size 0201, 9.1nH, 0.22A, 0.48Ohm; Manufacturer Part Number: 7447820091G; Manufacturer: Wurth Elektronik; Case/Size Code: 0201; Inductance Tolerance: +/-2%; Q Factor: 4; Self Resonant Frequency: 3200MHz; Category: RF Inductors; Match Code: WE-MK; ComponentLink1Description: Website Link; ComponentLink1URL: https://www.we-online.com/redexpert/article/7447820091G?ad; ComponentLink2Description: Datasheet Link; ComponentLink2URL: https://www.we-online.com/redexpert/spec/7447820091G?ad; Mount: Surface Mount; Operating Temperature Max: 125°C; Operating Temperature Min: -55°C; Packaging: Tape and Reel; Length: 0.6mm; Width: 0.3mm; Height: 0.3mm; DC Resistance Max: 0.48Ohm; Inductance: 9.1nH; Rated Current: 0.22A
footprint WE-MK_0201_L0.6W0.3H0.3
simulation model 0201_7447820091G_9.1n
pins: 1, 2

## 7447820110
designator L?, comment 10nH  (value not drawn)
WE-MK Multilayer Ceramic SMT Inductor, size 0201, 10nH, 0.22A, 0.51Ohm; Manufacturer Part Number: 7447820110; Manufacturer: Wurth Elektronik; Case/Size Code: 0201; Inductance Tolerance: +/-5%; Q Factor: 4; Self Resonant Frequency: 2900MHz; Category: RF Inductors; Match Code: WE-MK; ComponentLink1Description: Website Link; ComponentLink1URL: https://www.we-online.com/redexpert/article/7447820110?ad; ComponentLink2Description: Datasheet Link; ComponentLink2URL: https://www.we-online.com/redexpert/spec/7447820110?ad; Mount: Surface Mount; Operating Temperature Max: 125°C; Operating Temperature Min: -55°C; Packaging: Tape and Reel; Length: 0.6mm; Width: 0.3mm; Height: 0.3mm; DC Resistance Max: 0.51Ohm; Inductance: 10nH; Rated Current: 0.22A
footprint WE-MK_0201_L0.6W0.3H0.3
simulation model 0201_7447820110_10n
pins: 1, 2

## 7447820110G
designator L?, comment 10nH  (value not drawn)
WE-MK Multilayer Ceramic SMT Inductor, size 0201, 10nH, 0.22A, 0.51Ohm; Manufacturer Part Number: 7447820110G; Manufacturer: Wurth Elektronik; Case/Size Code: 0201; Inductance Tolerance: +/-2%; Q Factor: 4; Self Resonant Frequency: 2900MHz; Category: RF Inductors; Match Code: WE-MK; ComponentLink1Description: Website Link; ComponentLink1URL: https://www.we-online.com/redexpert/article/7447820110G?ad; ComponentLink2Description: Datasheet Link; ComponentLink2URL: https://www.we-online.com/redexpert/spec/7447820110G?ad; Mount: Surface Mount; Operating Temperature Max: 125°C; Operating Temperature Min: -55°C; Packaging: Tape and Reel; Length: 0.6mm; Width: 0.3mm; Height: 0.3mm; DC Resistance Max: 0.51Ohm; Inductance: 10nH; Rated Current: 0.22A
footprint WE-MK_0201_L0.6W0.3H0.3
simulation model 0201_7447820110G_10n
pins: 1, 2

## 7447820112
designator L?, comment 12nH  (value not drawn)
WE-MK Multilayer Ceramic SMT Inductor, size 0201, 12nH, 0.19A, 0.68Ohm; Manufacturer Part Number: 7447820112; Manufacturer: Wurth Elektronik; Case/Size Code: 0201; Inductance Tolerance: +/-5%; Q Factor: 4; Self Resonant Frequency: 2700MHz; Category: RF Inductors; Match Code: WE-MK; ComponentLink1Description: Website Link; ComponentLink1URL: https://www.we-online.com/redexpert/article/7447820112?ad; ComponentLink2Description: Datasheet Link; ComponentLink2URL: https://www.we-online.com/redexpert/spec/7447820112?ad; Mount: Surface Mount; Operating Temperature Max: 125°C; Operating Temperature Min: -55°C; Packaging: Tape and Reel; Length: 0.6mm; Width: 0.3mm; Height: 0.3mm; DC Resistance Max: 0.68Ohm; Inductance: 12nH; Rated Current: 0.19A
footprint WE-MK_0201_L0.6W0.3H0.3
simulation model 0201_7447820112_12n
pins: 1, 2

## 7447820112G
designator L?, comment 12nH  (value not drawn)
WE-MK Multilayer Ceramic SMT Inductor, size 0201, 12nH, 0.19A, 0.68Ohm; Manufacturer Part Number: 7447820112G; Manufacturer: Wurth Elektronik; Case/Size Code: 0201; Inductance Tolerance: +/-2%; Q Factor: 4; Self Resonant Frequency: 2700MHz; Category: RF Inductors; Match Code: WE-MK; ComponentLink1Description: Website Link; ComponentLink1URL: https://www.we-online.com/redexpert/article/7447820112G?ad; ComponentLink2Description: Datasheet Link; ComponentLink2URL: https://www.we-online.com/redexpert/spec/7447820112G?ad; Mount: Surface Mount; Operating Temperature Max: 125°C; Operating Temperature Min: -55°C; Packaging: Tape and Reel; Length: 0.6mm; Width: 0.3mm; Height: 0.3mm; DC Resistance Max: 0.68Ohm; Inductance: 12nH; Rated Current: 0.19A
footprint WE-MK_0201_L0.6W0.3H0.3
simulation model 0201_7447820112G_12n
pins: 1, 2

## 7447820115
designator L?, comment 15nH  (value not drawn)
WE-MK Multilayer Ceramic SMT Inductor, size 0201, 15nH, 0.18A, 0.71Ohm; Manufacturer Part Number: 7447820115; Manufacturer: Wurth Elektronik; Case/Size Code: 0201; Inductance Tolerance: +/-5%; Q Factor: 4; Self Resonant Frequency: 2300MHz; Category: RF Inductors; Match Code: WE-MK; ComponentLink1Description: Website Link; ComponentLink1URL: https://www.we-online.com/redexpert/article/7447820115?ad; ComponentLink2Description: Datasheet Link; ComponentLink2URL: https://www.we-online.com/redexpert/spec/7447820115?ad; Mount: Surface Mount; Operating Temperature Max: 125°C; Operating Temperature Min: -55°C; Packaging: Tape and Reel; Length: 0.6mm; Width: 0.3mm; Height: 0.3mm; DC Resistance Max: 0.71Ohm; Inductance: 15nH; Rated Current: 0.18A
footprint WE-MK_0201_L0.6W0.3H0.3
simulation model 0201_7447820115_15n
pins: 1, 2

## 7447820115G
designator L?, comment 15nH  (value not drawn)
WE-MK Multilayer Ceramic SMT Inductor, size 0201, 15nH, 0.18A, 0.71Ohm; Manufacturer Part Number: 7447820115G; Manufacturer: Wurth Elektronik; Case/Size Code: 0201; Inductance Tolerance: +/-2%; Q Factor: 4; Self Resonant Frequency: 2300MHz; Category: RF Inductors; Match Code: WE-MK; ComponentLink1Description: Website Link; ComponentLink1URL: https://www.we-online.com/redexpert/article/7447820115G?ad; ComponentLink2Description: Datasheet Link; ComponentLink2URL: https://www.we-online.com/redexpert/spec/7447820115G?ad; Mount: Surface Mount; Operating Temperature Max: 125°C; Operating Temperature Min: -55°C; Packaging: Tape and Reel; Length: 0.6mm; Width: 0.3mm; Height: 0.3mm; DC Resistance Max: 0.71Ohm; Inductance: 15nH; Rated Current: 0.18A
footprint WE-MK_0201_L0.6W0.3H0.3
simulation model 0201_7447820115G_15n
pins: 1, 2

## 7447820118
designator L?, comment 18nH  (value not drawn)
WE-MK Multilayer Ceramic SMT Inductor, size 0201, 18nH, 0.17A, 0.81Ohm; Manufacturer Part Number: 7447820118; Manufacturer: Wurth Elektronik; Case/Size Code: 0201; Inductance Tolerance: +/-5%; Q Factor: 4; Self Resonant Frequency: 2100MHz; Category: RF Inductors; Match Code: WE-MK; ComponentLink1Description: Website Link; ComponentLink1URL: https://www.we-online.com/redexpert/article/7447820118?ad; ComponentLink2Description: Datasheet Link; ComponentLink2URL: https://www.we-online.com/redexpert/spec/7447820118?ad; Mount: Surface Mount; Operating Temperature Max: 125°C; Operating Temperature Min: -55°C; Packaging: Tape and Reel; Length: 0.6mm; Width: 0.3mm; Height: 0.3mm; DC Resistance Max: 0.81Ohm; Inductance: 18nH; Rated Current: 0.17A
footprint WE-MK_0201_L0.6W0.3H0.3
simulation model 0201_7447820118_18n
pins: 1, 2

## 7447820118G
designator L?, comment 18nH  (value not drawn)
WE-MK Multilayer Ceramic SMT Inductor, size 0201, 18nH, 0.17A, 0.81Ohm; Manufacturer Part Number: 7447820118G; Manufacturer: Wurth Elektronik; Case/Size Code: 0201; Inductance Tolerance: +/-2%; Q Factor: 4; Self Resonant Frequency: 2100MHz; Category: RF Inductors; Match Code: WE-MK; ComponentLink1Description: Website Link; ComponentLink1URL: https://www.we-online.com/redexpert/article/7447820118G?ad; ComponentLink2Description: Datasheet Link; ComponentLink2URL: https://www.we-online.com/redexpert/spec/7447820118G?ad; Mount: Surface Mount; Operating Temperature Max: 125°C; Operating Temperature Min: -55°C; Packaging: Tape and Reel; Length: 0.6mm; Width: 0.3mm; Height: 0.3mm; DC Resistance Max: 0.81Ohm; Inductance: 18nH; Rated Current: 0.17A
footprint WE-MK_0201_L0.6W0.3H0.3
simulation model 0201_7447820118G_18n
pins: 1, 2

## 7447820122
designator L?, comment 22nH  (value not drawn)
WE-MK Multilayer Ceramic SMT Inductor, size 0201, 22nH, 0.15A, 1Ohm; Manufacturer Part Number: 7447820122; Manufacturer: Wurth Elektronik; Case/Size Code: 0201; Inductance Tolerance: +/-5%; Q Factor: 4; Self Resonant Frequency: 1800MHz; Category: RF Inductors; Match Code: WE-MK; ComponentLink1Description: Website Link; ComponentLink1URL: https://www.we-online.com/redexpert/article/7447820122?ad; ComponentLink2Description: Datasheet Link; ComponentLink2URL: https://www.we-online.com/redexpert/spec/7447820122?ad; Mount: Surface Mount; Operating Temperature Max: 125°C; Operating Temperature Min: -55°C; Packaging: Tape and Reel; Length: 0.6mm; Width: 0.3mm; Height: 0.3mm; DC Resistance Max: 1Ohm; Inductance: 22nH; Rated Current: 0.15A
footprint WE-MK_0201_L0.6W0.3H0.3
simulation model 0201_7447820122_22n
pins: 1, 2

## 7447820122G
designator L?, comment 22nH  (value not drawn)
WE-MK Multilayer Ceramic SMT Inductor, size 0201, 22nH, 0.15A, 1Ohm; Manufacturer Part Number: 7447820122G; Manufacturer: Wurth Elektronik; Case/Size Code: 0201; Inductance Tolerance: +/-2%; Q Factor: 4; Self Resonant Frequency: 1800MHz; Category: RF Inductors; Match Code: WE-MK; ComponentLink1Description: Website Link; ComponentLink1URL: https://www.we-online.com/redexpert/article/7447820122G?ad; ComponentLink2Description: Datasheet Link; ComponentLink2URL: https://www.we-online.com/redexpert/spec/7447820122G?ad; Mount: Surface Mount; Operating Temperature Max: 125°C; Operating Temperature Min: -55°C; Packaging: Tape and Reel; Length: 0.6mm; Width: 0.3mm; Height: 0.3mm; DC Resistance Max: 1Ohm; Inductance: 22nH; Rated Current: 0.15A
footprint WE-MK_0201_L0.6W0.3H0.3
simulation model 0201_7447820122G_22n
pins: 1, 2

## 7447820127
designator L?, comment 27nH  (value not drawn)
WE-MK Multilayer Ceramic SMT Inductor, size 0201, 27nH, 0.12A, 1.35Ohm; Manufacturer Part Number: 7447820127; Manufacturer: Wurth Elektronik; Case/Size Code: 0201; Inductance Tolerance: +/-5%; Q Factor: 4; Self Resonant Frequency: 1800MHz; Category: RF Inductors; Match Code: WE-MK; ComponentLink1Description: Website Link; ComponentLink1URL: https://www.we-online.com/redexpert/article/7447820127?ad; ComponentLink2Description: Datasheet Link; ComponentLink2URL: https://www.we-online.com/redexpert/spec/7447820127?ad; Mount: Surface Mount; Operating Temperature Max: 125°C; Operating Temperature Min: -55°C; Packaging: Tape and Reel; Length: 0.6mm; Width: 0.3mm; Height: 0.3mm; DC Resistance Max: 1.35Ohm; Inductance: 27nH; Rated Current: 0.12A
footprint WE-MK_0201_L0.6W0.3H0.3
simulation model 0201_7447820127_27n
pins: 1, 2

## 7447820127G
designator L?, comment 27nH  (value not drawn)
WE-MK Multilayer Ceramic SMT Inductor, size 0201, 27nH, 0.12A, 1.35Ohm; Manufacturer Part Number: 7447820127G; Manufacturer: Wurth Elektronik; Case/Size Code: 0201; Inductance Tolerance: +/-2%; Q Factor: 4; Self Resonant Frequency: 1800MHz; Category: RF Inductors; Match Code: WE-MK; ComponentLink1Description: Website Link; ComponentLink1URL: https://www.we-online.com/redexpert/article/7447820127G?ad; ComponentLink2Description: Datasheet Link; ComponentLink2URL: https://www.we-online.com/redexpert/spec/7447820127G?ad; Mount: Surface Mount; Operating Temperature Max: 125°C; Operating Temperature Min: -55°C; Packaging: Tape and Reel; Length: 0.6mm; Width: 0.3mm; Height: 0.3mm; DC Resistance Max: 1.35Ohm; Inductance: 27nH; Rated Current: 0.12A
footprint WE-MK_0201_L0.6W0.3H0.3
simulation model 0201_7447820127G_27n
pins: 1, 2

## 7447820133
designator L?, comment 33nH  (value not drawn)
WE-MK Multilayer Ceramic SMT Inductor, size 0201, 33nH, 0.11A, 1.5Ohm; Manufacturer Part Number: 7447820133; Manufacturer: Wurth Elektronik; Case/Size Code: 0201; Inductance Tolerance: +/-5%; Q Factor: 4; Self Resonant Frequency: 1700MHz; Category: RF Inductors; Match Code: WE-MK; ComponentLink1Description: Website Link; ComponentLink1URL: https://www.we-online.com/redexpert/article/7447820133?ad; ComponentLink2Description: Datasheet Link; ComponentLink2URL: https://www.we-online.com/redexpert/spec/7447820133?ad; Mount: Surface Mount; Operating Temperature Max: 125°C; Operating Temperature Min: -55°C; Packaging: Tape and Reel; Length: 0.6mm; Width: 0.3mm; Height: 0.3mm; DC Resistance Max: 1.5Ohm; Inductance: 33nH; Rated Current: 0.11A
footprint WE-MK_0201_L0.6W0.3H0.3
simulation model 0201_7447820133_33n
pins: 1, 2